# EAGLE library part MCP48FVB21-E_UN (library MCP48FVB21-E_UN)
Microchip MCP48FVB21-E/UN, 12 bit DAC, 10-Pin MSOP Source: Datasheet <http://ww1.microchip.com/downloads/en/DeviceDoc/20005466A.pdf>
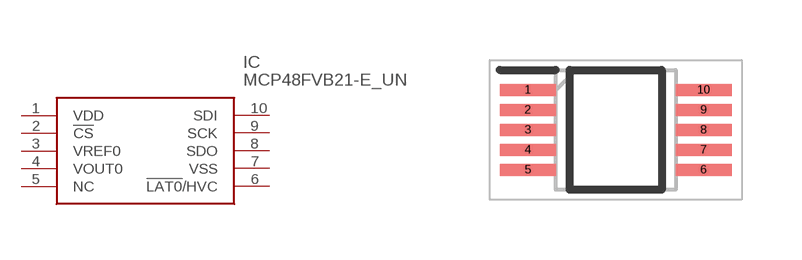
[diagram p0: symbol with the pads of SOP50P490X110-10N; footprint SOP50P490X110-10N]

Designator prefix IC

## MCP48FVB21-E_UN (Description: Microchip MCP48FVB21-E/UN, 12 bit DAC, 10-Pin MSOP; Height: 1.1mm; Manufacturer_Name: Microchip; Manufacturer_Part_Number: MCP48FVB21-E/UN; RS_Part_Number: 9163680; RS_Price-Stock: https://uk.rs-online.com/web/p/products/9163680)  [SOP50P490X110-10N]
1  VDD
2  !CS
3  VREF0
4  VOUT0
5  NC  nc
6  !LAT0!/HVC
7  VSS
8  SDO
9  SCK
10  SDI

## Footprint SOP50P490X110-10N (pad centres in mm)
UN(MSOP)
smd 1.4 x 0.3: 1 -2.2,1; 2 -2.2,0.5; 3 -2.2,0; 4 -2.2,-0.5; 5 -2.2,-1; 6 2.2,-1; 7 2.2,-0.5; 8 2.2,0; 9 2.2,0.5; 10 2.2,1